# EAGLE library part TEXAS_INSTRUMENTS_RF430CL330HCPWR (library Texas Instruments - RF430CL330HCPWR)
RF430CL330H Dynamic NFC Interface Transponder
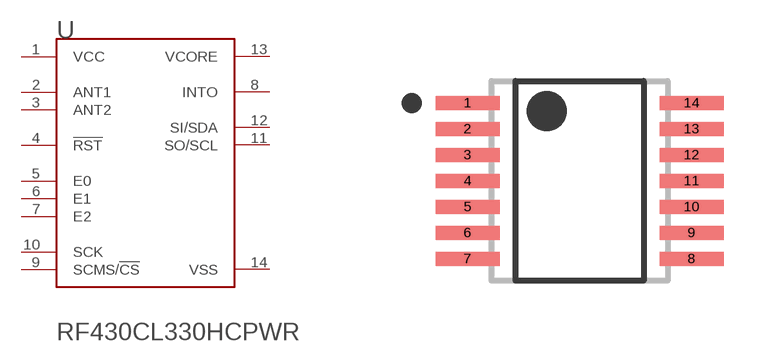
[diagram p0: symbol with the pads of TEXAS_INSTRUMENTS_RF430CL330HCPWR_0; footprint TEXAS_INSTRUMENTS_RF430CL330HCPWR_0]

Designator prefix U

## TEXAS_INSTRUMENTS_RF430CL330HCPWRTEXAS_INSTRUMENTS_RF430CL330HCPWR_0_0 (CENTROID_NOT_SPECIFIED: No; DATASHEET: http://www.ti.com/lit/ds/symlink/rf430cl330h.pdf; DIGIKEY_DESCRIPTION: IC NFC DYNAMIC TAG TARG 14-TSSOP; DIGIKEY_PART_NUMBER: 296-36223-1-ND; LEAD_FREE: yes; MF: Texas Instruments; MFG_PACKAGE_IDENT: PW(R-PDSO-G14); MOUSER_PART_NUMBER: 595-RF430CL330HCPWR; MPN: RF430CL330HCPWR; PACKAGE: TSSOP14; PREFIX: U; ROHS: yes; TEMPERATURE_RANGE_HIGH: +85°C; TEMPERATURE_RANGE_LOW: -40°C)  [TEXAS_INSTRUMENTS_RF430CL330HCPWR_0]
1  VCC
2  ANT1
3  ANT2
4  !RST!
5  E0
6  E1
7  E2
8  INTO
9  SCMS/!CS!
10  SCK
11  SO/SCL
12  SI/SDA
13  VCORE
14  VSS

## Footprint TEXAS_INSTRUMENTS_RF430CL330HCPWR_0 (pad centres in mm)
RF430CL330H Dynamic NFC Interface Transponder
smd 1.6 x 0.35: 1 -2.8,1.95; 2 -2.8,1.3; 3 -2.8,0.65; 4 -2.8,0; 5 -2.8,-0.65; 6 -2.8,-1.3; 7 -2.8,-1.95; 8 2.8,-1.95; 9 2.8,-1.3; 10 2.8,-0.65; 11 2.8,0; 12 2.8,0.65; 13 2.8,1.3; 14 2.8,1.95